# Altium footprint library QFP144P50_2200X2200X160L60X22N.PcbLib: 1 footprints
Each footprint in its own frame and in the unit in brackets; x right, y up, seen from the top. Pads: shape width x height; smd on the part's side, far side on the other; paste and mask are expansions set on the pad; w line width, h text height; cw(c..) or ccw(c..) is an arc to the next point about the centre after c.
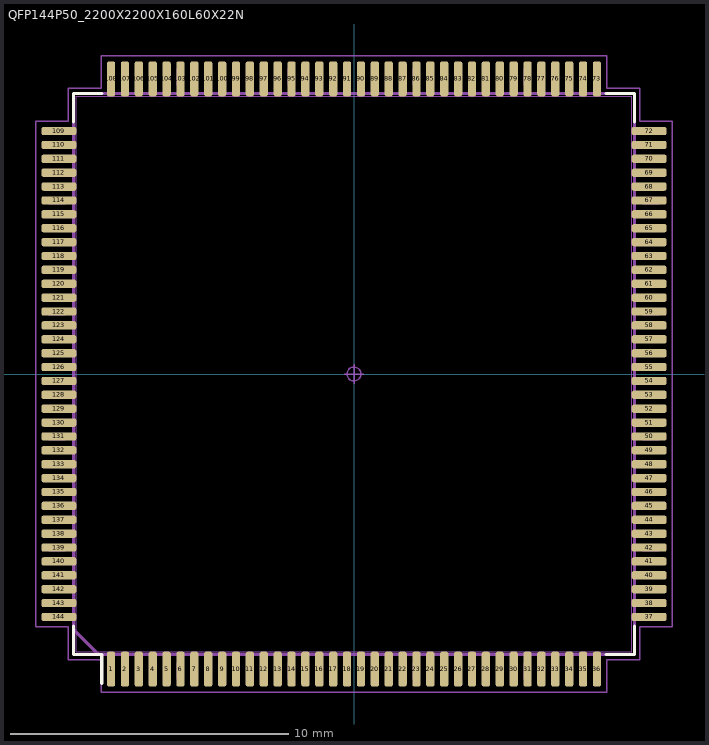
[diagram p0: the footprint, top view; thin cyan lines are the x and y axes]

## QFP144P50_2200X2200X160L60X22N [mm] "Quad Flat Pack (QFP), 0.50 mm pitch; square, 36 pin X 36 pin, 20.00 mm L X 20.00 mm W X 1.60 mm H body"
height 1.6
pads (144):
  rrect53% 0.3x1.26 smd: 1(-8.75,-10.63) 2(-8.25,-10.63) 3(-7.75,-10.63) 4(-7.25,-10.63) 5(-6.75,-10.63) 6(-6.25,-10.63) 7(-5.75,-10.63) 8(-5.25,-10.63) 9(-4.75,-10.63) 10(-4.25,-10.63) 11(-3.75,-10.63) 12(-3.25,-10.63) 13(-2.75,-10.63) 14(-2.25,-10.63) 15(-1.75,-10.63) 16(-1.25,-10.63) 17(-0.75,-10.63) 18(-0.25,-10.63) 19(0.25,-10.63) 20(0.75,-10.63) 21(1.25,-10.63) 22(1.75,-10.63) 23(2.25,-10.63) 24(2.75,-10.63) 25(3.25,-10.63) 26(3.75,-10.63) 27(4.25,-10.63) 28(4.75,-10.63) 29(5.25,-10.63) 30(5.75,-10.63) 31(6.25,-10.63) 32(6.75,-10.63) 33(7.25,-10.63) 34(7.75,-10.63) 35(8.25,-10.63) 36(8.75,-10.63) 73(8.75,10.63) 74(8.25,10.63) 75(7.75,10.63) 76(7.25,10.63) 77(6.75,10.63) 78(6.25,10.63) 79(5.75,10.63) 80(5.25,10.63) 81(4.75,10.63) 82(4.25,10.63) 83(3.75,10.63) 84(3.25,10.63) 85(2.75,10.63) 86(2.25,10.63) 87(1.75,10.63) 88(1.25,10.63) 89(0.75,10.63) 90(0.25,10.63) 91(-0.25,10.63) 92(-0.75,10.63) 93(-1.25,10.63) 94(-1.75,10.63) 95(-2.25,10.63) 96(-2.75,10.63) 97(-3.25,10.63) 98(-3.75,10.63) 99(-4.25,10.63) 100(-4.75,10.63) 101(-5.25,10.63) 102(-5.75,10.63) 103(-6.25,10.63) 104(-6.75,10.63) 105(-7.25,10.63) 106(-7.75,10.63) 107(-8.25,10.63) 108(-8.75,10.63)
  rrect53% 1.26x0.3 smd: 37(10.63,-8.75) 38(10.63,-8.25) 39(10.63,-7.75) 40(10.63,-7.25) 41(10.63,-6.75) 42(10.63,-6.25) 43(10.63,-5.75) 44(10.63,-5.25) 45(10.63,-4.75) 46(10.63,-4.25) 47(10.63,-3.75) 48(10.63,-3.25) 49(10.63,-2.75) 50(10.63,-2.25) 51(10.63,-1.75) 52(10.63,-1.25) 53(10.63,-0.75) 54(10.63,-0.25) 55(10.63,0.25) 56(10.63,0.75) 57(10.63,1.25) 58(10.63,1.75) 59(10.63,2.25) 60(10.63,2.75) 61(10.63,3.25) 62(10.63,3.75) 63(10.63,4.25) 64(10.63,4.75) 65(10.63,5.25) 66(10.63,5.75) 67(10.63,6.25) 68(10.63,6.75) 69(10.63,7.25) 70(10.63,7.75) 71(10.63,8.25) 72(10.63,8.75) 109(-10.63,8.75) 110(-10.63,8.25) 111(-10.63,7.75) 112(-10.63,7.25) 113(-10.63,6.75) 114(-10.63,6.25) 115(-10.63,5.75) 116(-10.63,5.25) 117(-10.63,4.75) 118(-10.63,4.25) 119(-10.63,3.75) 120(-10.63,3.25) 121(-10.63,2.75) 122(-10.63,2.25) 123(-10.63,1.75) 124(-10.63,1.25) 125(-10.63,0.75) 126(-10.63,0.25) 127(-10.63,-0.25) 128(-10.63,-0.75) 129(-10.63,-1.25) 130(-10.63,-1.75) 131(-10.63,-2.25) 132(-10.63,-2.75) 133(-10.63,-3.25) 134(-10.63,-3.75) 135(-10.63,-4.25) 136(-10.63,-4.75) 137(-10.63,-5.25) 138(-10.63,-5.75) 139(-10.63,-6.25) 140(-10.63,-6.75) 141(-10.63,-7.25) 142(-10.63,-7.75) 143(-10.63,-8.25) 144(-10.63,-8.75)
Top Overlay:
  lines w0.12: -10.1,-9.08 -10.1,-10.1 -9.08,-10.1 -9.08,-11.14 ; -10.1,9.08 -10.1,10.1 -9.08,10.1 ; 9.08,-10.1 10.1,-10.1 10.1,-9.08 ; 9.08,10.1 10.1,10.1 10.1,9.08
Mechanical 3:
  lines w0.12: -10.1,-9.204 -10.1,10.1 10.1,10.1 10.1,-10.1 -9.204,-10.1 -10.1,-9.204
Mechanical 5:
  drawing of 580 lines, arcs and shapes, not listed
Mechanical 7:
  circle w0.05: c0,0 r0.25
  lines w0.05: -0.35,0 0.35,0 ; 0,-0.35 0,0.35 ; -11.46,-9.1 -11.46,9.1 -10.3,9.1 -10.3,10.3 -9.1,10.3 -9.1,11.46 9.1,11.46 9.1,10.3 10.3,10.3 10.3,9.1 11.46,9.1 11.46,-9.1 10.3,-9.1 10.3,-10.3 9.1,-10.3 9.1,-11.46 -9.1,-11.46 -9.1,-10.3 -10.3,-10.3 -10.3,-9.1 -11.46,-9.1
Mechanical 9:
  text "'.Designator'" at -5.969,-0.381 h1
3D body "QFP144P50_2200X2200X160L60X22.STEP": height 1.6, standoff 0, extent -11,-11 11,11
3D body: height 1, standoff 0, extent -11.46,-11.46 11.46,11.46